# EAGLE library part ATTINY20 (library atmel)
8-bit AVR tiny Microcontroller Status aktiv ATtiny20 General purpose working registers 16 SRAM 128 B Program flash memory 2 kB 16-bit Timer/Counter 1 8-bit Timer/Counter 1 SPI 1 TWI (I2C) 1 ADC channels 8 ADC resolution 10 bit AC 1 Watchdog 1 General purpose I/O 12 External interrupts 12 Operating voltage 1.8 ... 5.5 V Speed grade 0 ... 4 MHz @ 1.8 ... 5.5 V 0 ... 8 MHz @ 2.7 ... 5.5 V 0 ... 12 MHz @ 4.5 ... 5.5 V Clock options calibrated internal 8 MHz oscillator internal 128 kHz oscillator external clock input
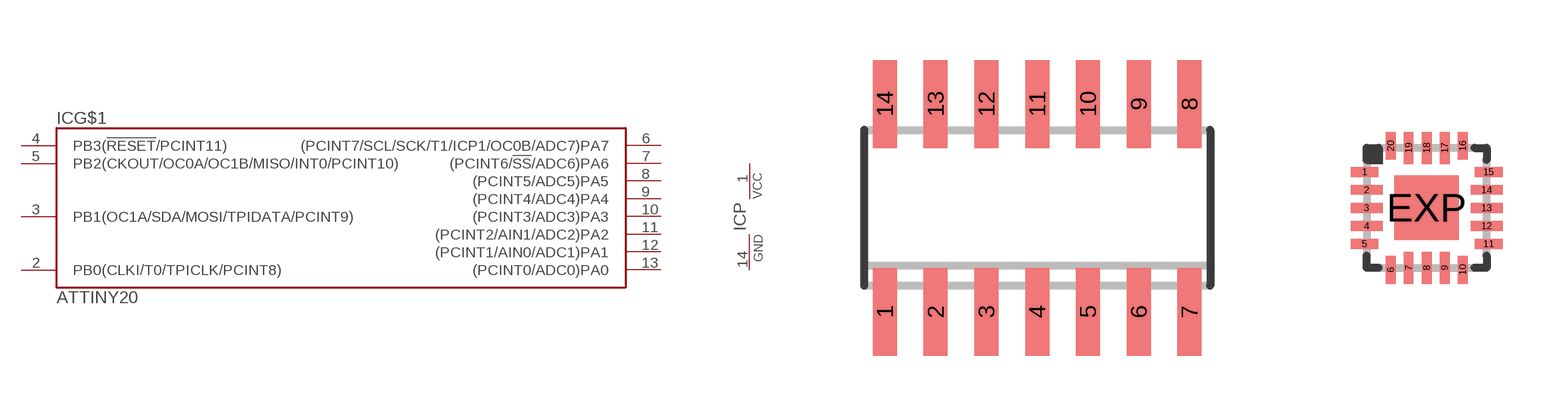
[diagram p72: symbol with the pads of SO14; footprints SO14, QFN20_3X3_0.45]

Designator prefix IC; gates G$1=TINY20 P=PWR

## ATTINY20-SSU  [SO14]
1  P:VCC  pwr
2  G$1:PB0(CLKI/T0/TPICLK/PCINT8)
3  G$1:PB1(OC1A/SDA/MOSI/TPIDATA/PCINT9)
4  G$1:PB3(!RESET!/PCINT11)
5  G$1:PB2(CKOUT/OC0A/OC1B/MISO/INT0/PCINT10)
6  G$1:(PCINT7/SCL/SCK/T1/ICP1/OC0B/ADC7)PA7
7  G$1:(PCINT6/!SS!/ADC6)PA6
8  G$1:(PCINT5/ADC5)PA5
9  G$1:(PCINT4/ADC4)PA4
10  G$1:(PCINT3/ADC3)PA3
11  G$1:(PCINT2/AIN1/ADC2)PA2
12  G$1:(PCINT1/AIN0/ADC1)PA1
13  G$1:(PCINT0/ADC0)PA0
14  P:GND  pwr

## ATTINY20-MMH  [QFN20_3X3_0.45]
1  G$1:(PCINT4/ADC4)PA4
2  G$1:(PCINT3/ADC3)PA3
3  G$1:(PCINT2/AIN1/ADC2)PA2
4  G$1:(PCINT1/AIN0/ADC1)PA1
5  G$1:(PCINT0/ADC0)PA0
8  P:GND  pwr
9  P:VCC  pwr
11  G$1:PB0(CLKI/T0/TPICLK/PCINT8)
12  G$1:PB1(OC1A/SDA/MOSI/TPIDATA/PCINT9)
13  G$1:PB3(!RESET!/PCINT11)
14  G$1:PB2(CKOUT/OC0A/OC1B/MISO/INT0/PCINT10)
15  G$1:(PCINT7/SCL/SCK/T1/ICP1/OC0B/ADC7)PA7
16  G$1:(PCINT6/!SS!/ADC6)PA6
17  G$1:(PCINT5/ADC5)PA5
EXP  P:GND  pwr

## ATTINY20-CCU  [15CC1]
A2  G$1:(PCINT5/ADC5)PA5
A3  G$1:(PCINT6/!SS!/ADC6)PA6
A4  G$1:PB2(CKOUT/OC0A/OC1B/MISO/INT0/PCINT10)
B1  G$1:(PCINT4/ADC4)PA4
B2  G$1:(PCINT7/SCL/SCK/T1/ICP1/OC0B/ADC7)PA7
B3  G$1:PB1(OC1A/SDA/MOSI/TPIDATA/PCINT9)
B4  G$1:PB3(!RESET!/PCINT11)
C1  G$1:(PCINT3/ADC3)PA3
C2  G$1:(PCINT2/AIN1/ADC2)PA2
C3  G$1:(PCINT1/AIN0/ADC1)PA1
C4  G$1:PB0(CLKI/T0/TPICLK/PCINT8)
D1  G$1:(PCINT0/ADC0)PA0
D2  P:GND  pwr
D3  P:GND  pwr
D4  P:VCC  pwr

## ATTINY20-XU  [MO-153AB1]
Pads as for SO14

## Footprint SO14 (pad centres in mm)
Small Outline IC, 150mil body width, 50mil lead pitch package/pad dimensions according to IPC-SM-782, RLP No. 302A JEDEC: MS-012 AB IPC: SO14 other notations: SO-14, SOIC14, SOIC-14
smd 0.6 x 2.2: 1 -3.81,-2.6; 2 -2.54,-2.6; 3 -1.27,-2.6; 4 0,-2.6; 5 1.27,-2.6; 6 2.54,-2.6; 7 3.81,-2.6; 8 3.81,2.6; 9 2.54,2.6; 10 1.27,2.6; 11 0,2.6; 12 -1.27,2.6; 13 -2.54,2.6; 14 -3.81,2.6

## Footprint QFN20_3X3_0.45 (pad centres in mm)
20-Lead Plastic QFN, 3mm x 3mm body, 0.45mm lead pitch, exposed pad ATMEL Code: 20M2, ZFC
smd 0.7 x 0.25: 1 -1.55,0.9; 5 -1.55,-0.9; 11 1.55,-0.9; 15 1.55,0.9
smd 0.8 x 0.25: 2 -1.5,0.45; 3 -1.5,0; 4 -1.5,-0.45; 12 1.5,-0.45; 13 1.5,0; 14 1.5,0.45
smd 0.25 x 0.7: 6 -0.9,-1.55; 10 0.9,-1.55; 16 0.9,1.55; 20 -0.9,1.55
smd 0.25 x 0.8: 7 -0.45,-1.5; 8 0,-1.5; 9 0.45,-1.5; 17 0.45,1.5; 18 0,1.5; 19 -0.45,1.5
smd 1.6 x 1.6: EXP 0,0

## Footprint 15CC1 (pad centres in mm)
fine-pitch Ball Grid Array, 3mm x 3mm body, 0.65mm ball pitch ATMEL Code: 15CC1, CBC
smd 0.25 x 0.25: A2 -0.325,0.975; A3 0.325,0.975; A4 0.975,0.975; B1 -0.975,0.325; B2 -0.325,0.325; B3 0.325,0.325; B4 0.975,0.325; C1 -0.975,-0.325; C2 -0.325,-0.325; C3 0.325,-0.325; C4 0.975,-0.325; D1 -0.975,-0.975; D2 -0.325,-0.975; D3 0.325,-0.975; D4 0.975,-0.975

## Footprint MO-153AB1 (pad centres in mm)
Small Shrink Outline Package, 5.0mm x 4.4mm body, 0.65mm lead pitch JEDEC: MO-153, variation AB-1 NXP: TSSOP14 (SOT402) Texas Instruments: PW (R-PDSO-G14) other notations: TSSOP14, TSSOP-14
smd 0.4 x 1.35: 1 -1.95,-2.925; 2 -1.3,-2.925; 3 -0.65,-2.925; 4 0,-2.925; 5 0.65,-2.925; 6 1.3,-2.925; 7 1.95,-2.925; 8 1.95,2.925; 9 1.3,2.925; 10 0.65,2.925; 11 0,2.925; 12 -0.65,2.925; 13 -1.3,2.925; 14 -1.95,2.925